# EAGLE library part LITE-ON_LTV-847 (library Upverter Library)
High Density Mounting Type Photocoupler
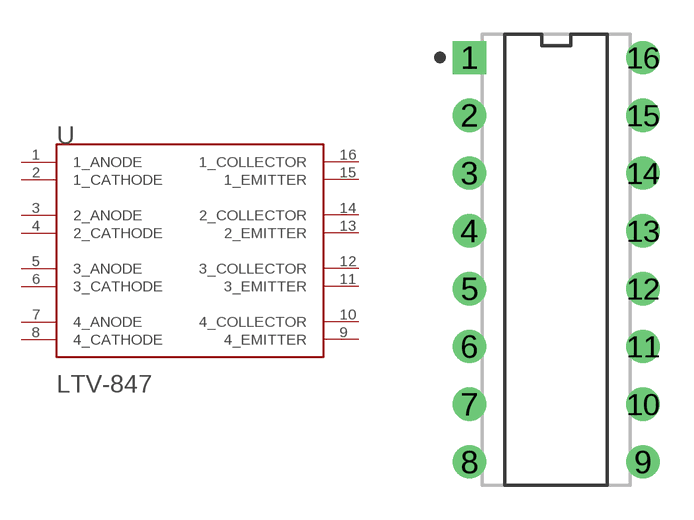
[diagram p0: symbol with the pads of LITE-ON_LTV-847_0; footprint LITE-ON_LTV-847_0]

Designator prefix U

## LITE-ON_LTV-847LITE-ON_LTV-847_0_0 (MF: Lite-On; MPN: LTV-847; centroid_not_specified: No; datasheet: http://www.mouser.com/ds/2/239/LTV-817-827-847-647.pdf; digikey_description: IC OPTOISOLTR 5KV 4CH TRANS 16-DIP; digikey_part_number: 160-1370-5-ND; ipc_land_pattern_name: DIP762W50P254L1984H400Q16; lead_free: yes; mouser_part_number: 859-LTV-847; package: DIP-16; prefix: U; rohs: yes; temperature_range_high: +110°C; temperature_range_low: -30°C; voltage: 35V)  [LITE-ON_LTV-847_0]
1  1_ANODE
2  1_CATHODE
3  2_ANODE
4  2_CATHODE
5  3_ANODE
6  3_CATHODE
7  4_ANODE
8  4_CATHODE
9  4_EMITTER
10  4_COLLECTOR
11  3_EMITTER
12  3_COLLECTOR
13  2_EMITTER
14  2_COLLECTOR
15  1_EMITTER
16  1_COLLECTOR

## Footprint LITE-ON_LTV-847_0 (pad centres in mm)
High Density Mounting Type Photocoupler
drill 0.95 pad 1.45 square: 1 -3.81,8.89
drill 0.95 pad 1.45 round: 2 -3.81,6.35; 3 -3.81,3.81; 4 -3.81,1.27; 5 -3.81,-1.27; 6 -3.81,-3.81; 7 -3.81,-6.35; 8 -3.81,-8.89; 9 3.81,-8.89; 10 3.81,-6.35; 11 3.81,-3.81; 12 3.81,-1.27; 13 3.81,1.27; 14 3.81,3.81; 15 3.81,6.35; 16 3.81,8.89